# Altium integrated library Elantec Operational Amplifier.IntLib: 201 symbols (part 1 of 4)
Pins are listed as number, name and electrical type; pins without a type are passive.

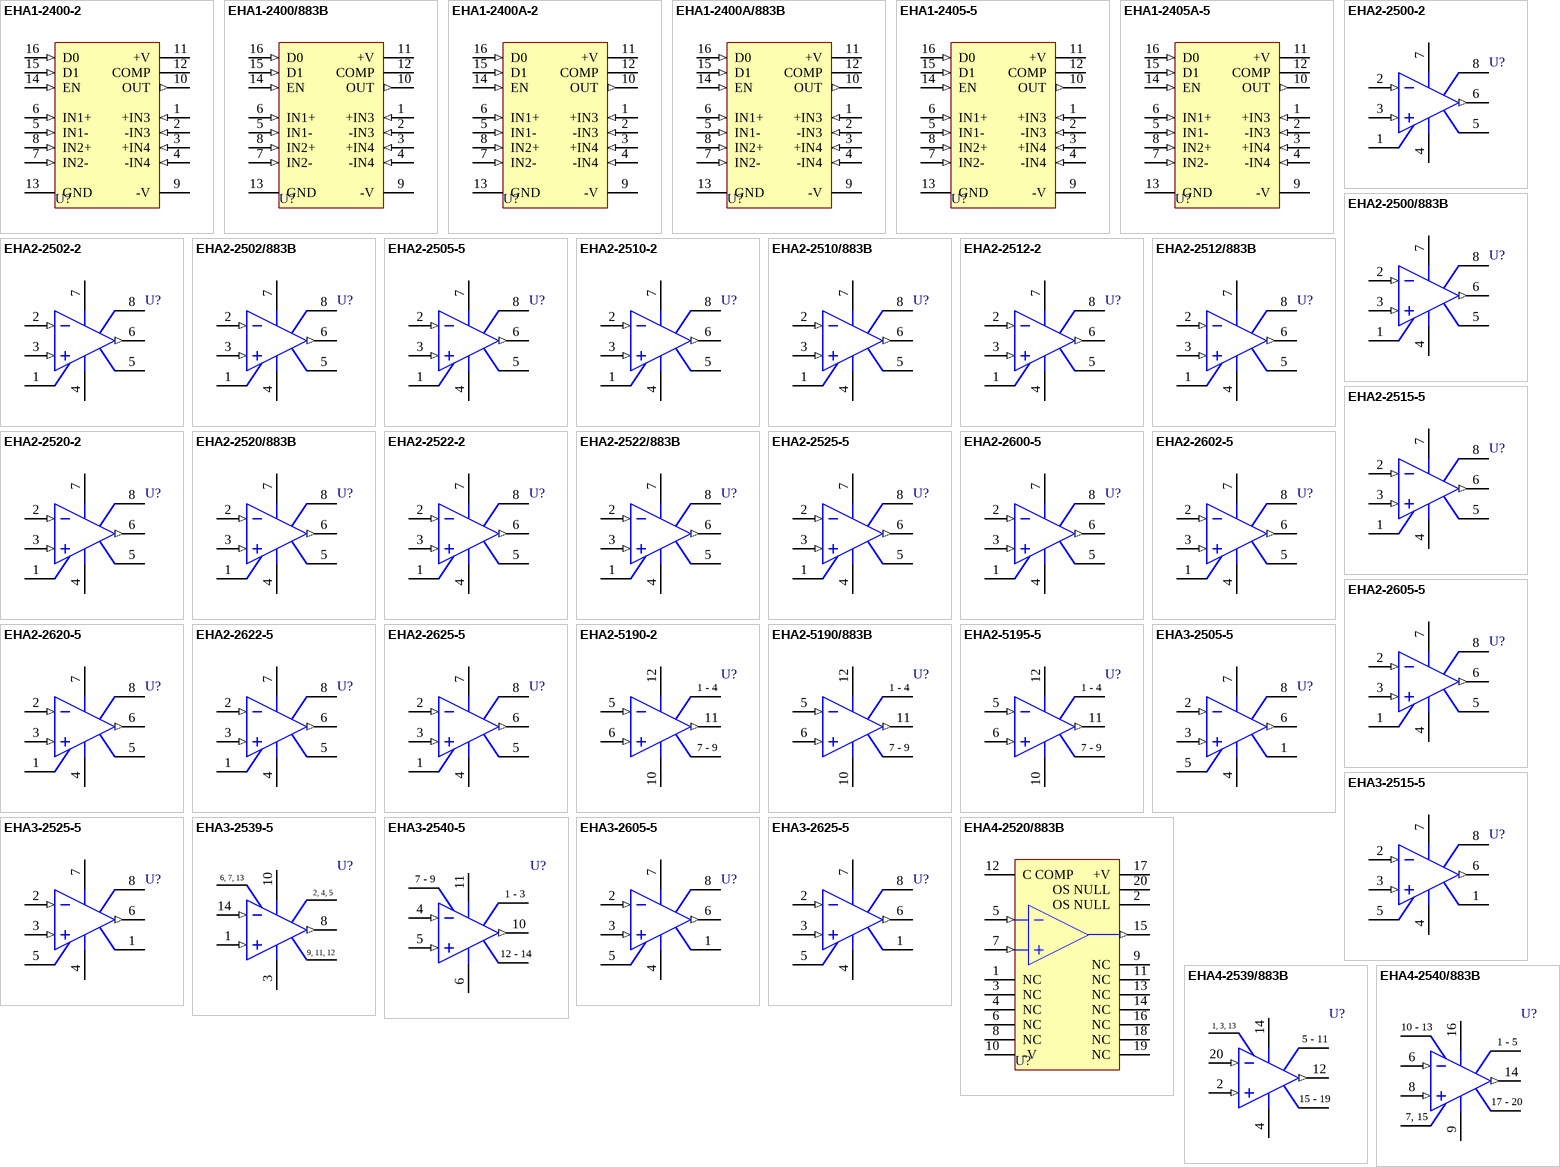
[diagram p0: symbols EHA1-2400-2 to EHA4-2540/883B]

## EHA1-2400-2
designator U?
4 Channel Programmable Amplifier; Published: 8-Jun-2000; LatestRevisionDate: 04-Mar-2005; LatestRevisionNote: Stylized 3D Model Added.; DatasheetVersion: Jul-1991; PackageReference: MDP0021; Publisher: Altium Limited; PackageDescription: DIP; 16 Leads; Row Spacing 7.62 mm; Pitch 2.54 mm; ComponentLink1Description: Manufacturer Link; ComponentLink1URL: http://www.intersil.com/cda/home/
footprint MDP0021 (DIP; 16 Leads; Row Spacing 7.62 mm; Pitch 2.54 mm)
3D model MDP0021 (DIP; 16 Leads; Row Spacing 7.62 mm; Pitch 2.54 mm)
pins: 1 +IN3 (in), 2 -IN3 (in), 3 +IN4 (in), 4 -IN4 (in), 5 IN1- (in), 6 IN1+ (in), 7 IN2- (in), 8 IN2+ (in), 9 -V (power), 10 OUT (out), 11 +V (power), 12 COMP, 13 GND (power), 14 EN (in), 15 D1 (in), 16 D0 (in)

## EHA1-2400/883B
designator U?
4 Channel Programmable Amplifier; Published: 8-Jun-2000; LatestRevisionDate: 04-Mar-2005; LatestRevisionNote: Stylized 3D Model Added.; DatasheetVersion: Jul-1991; PackageReference: MDP0021; Publisher: Altium Limited; PackageDescription: DIP; 16 Leads; Row Spacing 7.62 mm; Pitch 2.54 mm; ComponentLink1Description: Manufacturer Link; ComponentLink1URL: http://www.intersil.com/cda/home/
footprint MDP0021 (DIP; 16 Leads; Row Spacing 7.62 mm; Pitch 2.54 mm)
3D model MDP0021 (DIP; 16 Leads; Row Spacing 7.62 mm; Pitch 2.54 mm)
pins: 1 +IN3 (in), 2 -IN3 (in), 3 +IN4 (in), 4 -IN4 (in), 5 IN1- (in), 6 IN1+ (in), 7 IN2- (in), 8 IN2+ (in), 9 -V (power), 10 OUT (out), 11 +V (power), 12 COMP, 13 GND (power), 14 EN (in), 15 D1 (in), 16 D0 (in)

## EHA1-2400A-2
designator U?
4 Channel Programmable Amplifier; Published: 8-Jun-2000; LatestRevisionDate: 04-Mar-2005; LatestRevisionNote: Stylized 3D Model Added.; DatasheetVersion: Jul-1991; PackageReference: MDP0021; Publisher: Altium Limited; PackageDescription: DIP; 16 Leads; Row Spacing 7.62 mm; Pitch 2.54 mm; ComponentLink1Description: Manufacturer Link; ComponentLink1URL: http://www.intersil.com/cda/home/
footprint MDP0021 (DIP; 16 Leads; Row Spacing 7.62 mm; Pitch 2.54 mm)
3D model MDP0021 (DIP; 16 Leads; Row Spacing 7.62 mm; Pitch 2.54 mm)
pins: 1 +IN3 (in), 2 -IN3 (in), 3 +IN4 (in), 4 -IN4 (in), 5 IN1- (in), 6 IN1+ (in), 7 IN2- (in), 8 IN2+ (in), 9 -V (power), 10 OUT (out), 11 +V (power), 12 COMP, 13 GND (power), 14 EN (in), 15 D1 (in), 16 D0 (in)

## EHA1-2400A/883B
designator U?
4 Channel Programmable Amplifier; Published: 8-Jun-2000; LatestRevisionDate: 04-Mar-2005; LatestRevisionNote: Stylized 3D Model Added.; DatasheetVersion: Jul-1991; PackageReference: MDP0021; Publisher: Altium Limited; PackageDescription: DIP; 16 Leads; Row Spacing 7.62 mm; Pitch 2.54 mm; ComponentLink1Description: Manufacturer Link; ComponentLink1URL: http://www.intersil.com/cda/home/
footprint MDP0021 (DIP; 16 Leads; Row Spacing 7.62 mm; Pitch 2.54 mm)
3D model MDP0021 (DIP; 16 Leads; Row Spacing 7.62 mm; Pitch 2.54 mm)
pins: 1 +IN3 (in), 2 -IN3 (in), 3 +IN4 (in), 4 -IN4 (in), 5 IN1- (in), 6 IN1+ (in), 7 IN2- (in), 8 IN2+ (in), 9 -V (power), 10 OUT (out), 11 +V (power), 12 COMP, 13 GND (power), 14 EN (in), 15 D1 (in), 16 D0 (in)

## EHA1-2405-5
designator U?
4 Channel Programmable Amplifier; Published: 8-Jun-2000; LatestRevisionDate: 04-Mar-2005; LatestRevisionNote: Stylized 3D Model Added.; DatasheetVersion: Jul-1991; PackageReference: MDP0021; Publisher: Altium Limited; PackageDescription: DIP; 16 Leads; Row Spacing 7.62 mm; Pitch 2.54 mm; ComponentLink1Description: Manufacturer Link; ComponentLink1URL: http://www.intersil.com/cda/home/
footprint MDP0021 (DIP; 16 Leads; Row Spacing 7.62 mm; Pitch 2.54 mm)
3D model MDP0021 (DIP; 16 Leads; Row Spacing 7.62 mm; Pitch 2.54 mm)
pins: 1 +IN3 (in), 2 -IN3 (in), 3 +IN4 (in), 4 -IN4 (in), 5 IN1- (in), 6 IN1+ (in), 7 IN2- (in), 8 IN2+ (in), 9 -V (power), 10 OUT (out), 11 +V (power), 12 COMP, 13 GND (power), 14 EN (in), 15 D1 (in), 16 D0 (in)

## EHA1-2405A-5
designator U?
4 Channel Programmable Amplifier; Published: 8-Jun-2000; LatestRevisionDate: 04-Mar-2005; LatestRevisionNote: Stylized 3D Model Added.; DatasheetVersion: Jul-1991; PackageReference: MDP0021; Publisher: Altium Limited; PackageDescription: DIP; 16 Leads; Row Spacing 7.62 mm; Pitch 2.54 mm; ComponentLink1Description: Manufacturer Link; ComponentLink1URL: http://www.intersil.com/cda/home/
footprint MDP0021 (DIP; 16 Leads; Row Spacing 7.62 mm; Pitch 2.54 mm)
3D model MDP0021 (DIP; 16 Leads; Row Spacing 7.62 mm; Pitch 2.54 mm)
pins: 1 +IN3 (in), 2 -IN3 (in), 3 +IN4 (in), 4 -IN4 (in), 5 IN1- (in), 6 IN1+ (in), 7 IN2- (in), 8 IN2+ (in), 9 -V (power), 10 OUT (out), 11 +V (power), 12 COMP, 13 GND (power), 14 EN (in), 15 D1 (in), 16 D0 (in)

## EHA2-2500-2
designator U?
High Slew Rate Operational Amplifier; Published: 8-Jun-2000; LatestRevisionDate: 17-Jul-2002; LatestRevisionNote: Re-released for DXP Platform.; DatasheetVersion: Sep-1992; PackageVersion: 1993; PackageReference: MDP0004; Publisher: Altium Limited; PackageDescription: Can; 8 Leads; Pin Circle Dia. 5.08 mm; Lead Dia. 0.53 mm (max); ComponentLink1Description: Manufacturer Link; ComponentLink1URL: http://www.intersil.com/cda/home/
footprint MDP0004 (Can; 8 Leads; Pin Circle Dia. 5.08 mm; Lead Dia. 0.53 mm (max))
pins: 1 BAL, 2 IN- (in), 3 IN+ (in), 4 V- (power), 5 BAL, 6 OUT (out), 7 V+ (power), 8 CMPEN

## EHA2-2500/883B
designator U?
High Slew Rate Operational Amplifier; Published: 8-Jun-2000; LatestRevisionDate: 17-Jul-2002; LatestRevisionNote: Re-released for DXP Platform.; DatasheetVersion: Sep-1992; PackageVersion: 1993; PackageReference: MDP0004; Publisher: Altium Limited; PackageDescription: Can; 8 Leads; Pin Circle Dia. 5.08 mm; Lead Dia. 0.53 mm (max); ComponentLink1Description: Manufacturer Link; ComponentLink1URL: http://www.intersil.com/cda/home/
footprint MDP0004 (Can; 8 Leads; Pin Circle Dia. 5.08 mm; Lead Dia. 0.53 mm (max))
pins: 1 OS TRIM, 2 IN- (in), 3 IN+ (in), 4 V- (power), 5 OS TRIM, 6 OUT (out), 7 V+ (power), 8 F CMPEN

## EHA2-2502-2
designator U?
High Slew Rate Operational Amplifier; Published: 8-Jun-2000; LatestRevisionDate: 17-Jul-2002; LatestRevisionNote: Re-released for DXP Platform.; DatasheetVersion: Sep-1992; PackageVersion: 1993; PackageReference: MDP0004; Publisher: Altium Limited; PackageDescription: Can; 8 Leads; Pin Circle Dia. 5.08 mm; Lead Dia. 0.53 mm (max); ComponentLink1Description: Manufacturer Link; ComponentLink1URL: http://www.intersil.com/cda/home/
footprint MDP0004 (Can; 8 Leads; Pin Circle Dia. 5.08 mm; Lead Dia. 0.53 mm (max))
pins: 1 BAL, 2 IN- (in), 3 IN+ (in), 4 V- (power), 5 BAL, 6 OUT (out), 7 V+ (power), 8 CMPEN

## EHA2-2502/883B
designator U?
High Slew Rate Operational Amplifier; Published: 8-Jun-2000; LatestRevisionDate: 17-Jul-2002; LatestRevisionNote: Re-released for DXP Platform.; DatasheetVersion: Sep-1992; PackageVersion: 1993; PackageReference: MDP0004; Publisher: Altium Limited; PackageDescription: Can; 8 Leads; Pin Circle Dia. 5.08 mm; Lead Dia. 0.53 mm (max); ComponentLink1Description: Manufacturer Link; ComponentLink1URL: http://www.intersil.com/cda/home/
footprint MDP0004 (Can; 8 Leads; Pin Circle Dia. 5.08 mm; Lead Dia. 0.53 mm (max))
pins: 1 BAL, 2 IN- (in), 3 IN+ (in), 4 V- (power), 5 BAL, 6 OUT (out), 7 V+ (power), 8 CMPEN

## EHA2-2505-5
designator U?
High Slew Rate Operational Amplifier; Published: 8-Jun-2000; LatestRevisionDate: 17-Jul-2002; LatestRevisionNote: Re-released for DXP Platform.; DatasheetVersion: Sep-1992; PackageVersion: 1993; PackageReference: MDP0004; Publisher: Altium Limited; PackageDescription: Can; 8 Leads; Pin Circle Dia. 5.08 mm; Lead Dia. 0.53 mm (max); ComponentLink1Description: Manufacturer Link; ComponentLink1URL: http://www.intersil.com/cda/home/
footprint MDP0004 (Can; 8 Leads; Pin Circle Dia. 5.08 mm; Lead Dia. 0.53 mm (max))
pins: 1 BAL, 2 IN- (in), 3 IN+ (in), 4 V- (power), 5 BAL, 6 OUT (out), 7 V+ (power), 8 CMPEN

## EHA2-2510-2
designator U?
High Slew Rate Operational Amplifier; Published: 8-Jun-2000; LatestRevisionDate: 17-Jul-2002; LatestRevisionNote: Re-released for DXP Platform.; DatasheetVersion: Sep-1992; PackageVersion: 1993; PackageReference: MDP0004; Publisher: Altium Limited; PackageDescription: Can; 8 Leads; Pin Circle Dia. 5.08 mm; Lead Dia. 0.53 mm (max); ComponentLink1Description: Manufacturer Link; ComponentLink1URL: http://www.intersil.com/cda/home/
footprint MDP0004 (Can; 8 Leads; Pin Circle Dia. 5.08 mm; Lead Dia. 0.53 mm (max))
pins: 1 BAL, 2 IN- (in), 3 IN+ (in), 4 V- (power), 5 BAL, 6 OUT (out), 7 V+ (power), 8 CMPEN

## EHA2-2510/883B
designator U?
High Slew Rate Operational Amplifier; Published: 8-Jun-2000; LatestRevisionDate: 17-Jul-2002; LatestRevisionNote: Re-released for DXP Platform.; DatasheetVersion: Sep-1992; PackageVersion: 1993; PackageReference: MDP0004; Publisher: Altium Limited; PackageDescription: Can; 8 Leads; Pin Circle Dia. 5.08 mm; Lead Dia. 0.53 mm (max); ComponentLink1Description: Manufacturer Link; ComponentLink1URL: http://www.intersil.com/cda/home/
footprint MDP0004 (Can; 8 Leads; Pin Circle Dia. 5.08 mm; Lead Dia. 0.53 mm (max))
pins: 1 BAL, 2 IN- (in), 3 IN+ (in), 4 V- (power), 5 BAL, 6 OUT (out), 7 V+ (power), 8 CMPEN

## EHA2-2512-2
designator U?
High Slew Rate Operational Amplifier; Published: 8-Jun-2000; LatestRevisionDate: 17-Jul-2002; LatestRevisionNote: Re-released for DXP Platform.; DatasheetVersion: Sep-1992; PackageVersion: 1993; PackageReference: MDP0004; Publisher: Altium Limited; PackageDescription: Can; 8 Leads; Pin Circle Dia. 5.08 mm; Lead Dia. 0.53 mm (max); ComponentLink1Description: Manufacturer Link; ComponentLink1URL: http://www.intersil.com/cda/home/
footprint MDP0004 (Can; 8 Leads; Pin Circle Dia. 5.08 mm; Lead Dia. 0.53 mm (max))
pins: 1 BAL, 2 IN- (in), 3 IN+ (in), 4 V- (power), 5 BAL, 6 OUT (out), 7 V+ (power), 8 CMPEN

## EHA2-2512/883B
designator U?
High Slew Rate Operational Amplifier; Published: 8-Jun-2000; LatestRevisionDate: 17-Jul-2002; LatestRevisionNote: Re-released for DXP Platform.; DatasheetVersion: Sep-1992; PackageVersion: 1993; PackageReference: MDP0004; Publisher: Altium Limited; PackageDescription: Can; 8 Leads; Pin Circle Dia. 5.08 mm; Lead Dia. 0.53 mm (max); ComponentLink1Description: Manufacturer Link; ComponentLink1URL: http://www.intersil.com/cda/home/
footprint MDP0004 (Can; 8 Leads; Pin Circle Dia. 5.08 mm; Lead Dia. 0.53 mm (max))
pins: 1 BAL, 2 IN- (in), 3 IN+ (in), 4 V- (power), 5 BAL, 6 OUT (out), 7 V+ (power), 8 CMPEN

## EHA2-2515-5
designator U?
High Slew Rate Operational Amplifier; Published: 8-Jun-2000; LatestRevisionDate: 17-Jul-2002; LatestRevisionNote: Re-released for DXP Platform.; DatasheetVersion: Sep-1992; PackageVersion: 1993; PackageReference: MDP0004; Publisher: Altium Limited; PackageDescription: Can; 8 Leads; Pin Circle Dia. 5.08 mm; Lead Dia. 0.53 mm (max); ComponentLink1Description: Manufacturer Link; ComponentLink1URL: http://www.intersil.com/cda/home/
footprint MDP0004 (Can; 8 Leads; Pin Circle Dia. 5.08 mm; Lead Dia. 0.53 mm (max))
pins: 1 BAL, 2 IN- (in), 3 IN+ (in), 4 V- (power), 5 BAL, 6 OUT (out), 7 V+ (power), 8 CMPEN

## EHA2-2520-2
designator U?
High Slew Rate Operational Amplifier; Published: 8-Jun-2000; LatestRevisionDate: 17-Jul-2002; LatestRevisionNote: Re-released for DXP Platform.; DatasheetVersion: Sep-1992; PackageVersion: 1993; PackageReference: MDP0004; Publisher: Altium Limited; PackageDescription: Can; 8 Leads; Pin Circle Dia. 5.08 mm; Lead Dia. 0.53 mm (max); ComponentLink1Description: Manufacturer Link; ComponentLink1URL: http://www.intersil.com/cda/home/
footprint MDP0004 (Can; 8 Leads; Pin Circle Dia. 5.08 mm; Lead Dia. 0.53 mm (max))
pins: 1 BAL, 2 IN- (in), 3 IN+ (in), 4 V- (power), 5 BAL, 6 OUT (out), 7 V+ (power), 8 CMPEN

## EHA2-2520/883B
designator U?
High Slew Rate Operational Amplifier; Published: 8-Jun-2000; LatestRevisionDate: 17-Jul-2002; LatestRevisionNote: Re-released for DXP Platform.; DatasheetVersion: Sep-1992; PackageVersion: 1993; PackageReference: MDP0004; Publisher: Altium Limited; PackageDescription: Can; 8 Leads; Pin Circle Dia. 5.08 mm; Lead Dia. 0.53 mm (max); ComponentLink1Description: Manufacturer Link; ComponentLink1URL: http://www.intersil.com/cda/home/
footprint MDP0004 (Can; 8 Leads; Pin Circle Dia. 5.08 mm; Lead Dia. 0.53 mm (max))
pins: 1 BAL, 2 IN- (in), 3 IN+ (in), 4 V- (power), 5 BAL, 6 OUT (out), 7 V+ (power), 8 CMPEN

## EHA2-2522-2
designator U?
High Slew Rate Operational Amplifier; Published: 8-Jun-2000; LatestRevisionDate: 17-Jul-2002; LatestRevisionNote: Re-released for DXP Platform.; DatasheetVersion: Sep-1992; PackageVersion: 1993; PackageReference: MDP0004; Publisher: Altium Limited; PackageDescription: Can; 8 Leads; Pin Circle Dia. 5.08 mm; Lead Dia. 0.53 mm (max); ComponentLink1Description: Manufacturer Link; ComponentLink1URL: http://www.intersil.com/cda/home/
footprint MDP0004 (Can; 8 Leads; Pin Circle Dia. 5.08 mm; Lead Dia. 0.53 mm (max))
pins: 1 BAL, 2 IN- (in), 3 IN+ (in), 4 V- (power), 5 BAL, 6 OUT (out), 7 V+ (power), 8 CMPEN

## EHA2-2522/883B
designator U?
High Slew Rate Operational Amplifier; Published: 8-Jun-2000; LatestRevisionDate: 17-Jul-2002; LatestRevisionNote: Re-released for DXP Platform.; DatasheetVersion: Sep-1992; PackageVersion: 1993; PackageReference: MDP0004; Publisher: Altium Limited; PackageDescription: Can; 8 Leads; Pin Circle Dia. 5.08 mm; Lead Dia. 0.53 mm (max); ComponentLink1Description: Manufacturer Link; ComponentLink1URL: http://www.intersil.com/cda/home/
footprint MDP0004 (Can; 8 Leads; Pin Circle Dia. 5.08 mm; Lead Dia. 0.53 mm (max))
pins: 1 BAL, 2 IN- (in), 3 IN+ (in), 4 V- (power), 5 BAL, 6 OUT (out), 7 V+ (power), 8 CMPEN

## EHA2-2525-5
designator U?
High Slew Rate Operational Amplifier; Published: 8-Jun-2000; LatestRevisionDate: 17-Jul-2002; LatestRevisionNote: Re-released for DXP Platform.; DatasheetVersion: Sep-1992; PackageVersion: 1993; PackageReference: MDP0004; Publisher: Altium Limited; PackageDescription: Can; 8 Leads; Pin Circle Dia. 5.08 mm; Lead Dia. 0.53 mm (max); ComponentLink1Description: Manufacturer Link; ComponentLink1URL: http://www.intersil.com/cda/home/
footprint MDP0004 (Can; 8 Leads; Pin Circle Dia. 5.08 mm; Lead Dia. 0.53 mm (max))
pins: 1 BAL, 2 IN- (in), 3 IN+ (in), 4 V- (power), 5 BAL, 6 OUT (out), 7 V+ (power), 8 CMPEN

## EHA2-2600-5
designator U?
Wideband, High Impedance Operational Amplifier; Published: 8-Jun-2000; LatestRevisionDate: 17-Jul-2002; LatestRevisionNote: Re-released for DXP Platform.; DatasheetVersion: Jun-1992; PackageVersion: 1993; PackageReference: MDP0004; Publisher: Altium Limited; PackageDescription: Can; 8 Leads; Pin Circle Dia. 5.08 mm; Lead Dia. 0.53 mm (max); ComponentLink1Description: Manufacturer Link; ComponentLink1URL: http://www.intersil.com/cda/home/
footprint MDP0004 (Can; 8 Leads; Pin Circle Dia. 5.08 mm; Lead Dia. 0.53 mm (max))
pins: 1 BAL, 2 IN- (in), 3 IN+ (in), 4 V- (power), 5 BAL, 6 OUT (out), 7 V+ (power), 8 CMPEN

## EHA2-2602-5
designator U?
Wideband, High Impedance Operational Amplifier; Published: 8-Jun-2000; LatestRevisionDate: 17-Jul-2002; LatestRevisionNote: Re-released for DXP Platform.; DatasheetVersion: Jun-1992; PackageVersion: 1993; PackageReference: MDP0004; Publisher: Altium Limited; PackageDescription: Can; 8 Leads; Pin Circle Dia. 5.08 mm; Lead Dia. 0.53 mm (max); ComponentLink1Description: Manufacturer Link; ComponentLink1URL: http://www.intersil.com/cda/home/
footprint MDP0004 (Can; 8 Leads; Pin Circle Dia. 5.08 mm; Lead Dia. 0.53 mm (max))
pins: 1 BAL, 2 IN- (in), 3 IN+ (in), 4 V- (power), 5 BAL, 6 OUT (out), 7 V+ (power), 8 CMPEN

## EHA2-2605-5
designator U?
Wideband, High Impedance Operational Amplifier; Published: 8-Jun-2000; LatestRevisionDate: 17-Jul-2002; LatestRevisionNote: Re-released for DXP Platform.; DatasheetVersion: Jun-1992; PackageVersion: 1993; PackageReference: MDP0004; Publisher: Altium Limited; PackageDescription: Can; 8 Leads; Pin Circle Dia. 5.08 mm; Lead Dia. 0.53 mm (max); ComponentLink1Description: Manufacturer Link; ComponentLink1URL: http://www.intersil.com/cda/home/
footprint MDP0004 (Can; 8 Leads; Pin Circle Dia. 5.08 mm; Lead Dia. 0.53 mm (max))
pins: 1 BAL, 2 IN- (in), 3 IN+ (in), 4 V- (power), 5 BAL, 6 OUT (out), 7 V+ (power), 8 CMPEN

## EHA2-2620-5
designator U?
Wideband, High Impedance Operational Amplifier; Published: 8-Jun-2000; LatestRevisionDate: 17-Jul-2002; LatestRevisionNote: Re-released for DXP Platform.; DatasheetVersion: Jun-1992; PackageVersion: 1993; PackageReference: MDP0004; Publisher: Altium Limited; PackageDescription: Can; 8 Leads; Pin Circle Dia. 5.08 mm; Lead Dia. 0.53 mm (max); ComponentLink1Description: Manufacturer Link; ComponentLink1URL: http://www.intersil.com/cda/home/
footprint MDP0004 (Can; 8 Leads; Pin Circle Dia. 5.08 mm; Lead Dia. 0.53 mm (max))
pins: 1 BAL, 2 IN- (in), 3 IN+ (in), 4 V- (power), 5 BAL, 6 OUT (out), 7 V+ (power), 8 CMPEN

## EHA2-2622-5
designator U?
Wideband, High Impedance Operational Amplifier; Published: 8-Jun-2000; LatestRevisionDate: 17-Jul-2002; LatestRevisionNote: Re-released for DXP Platform.; DatasheetVersion: Jun-1992; PackageVersion: 1993; PackageReference: MDP0004; Publisher: Altium Limited; PackageDescription: Can; 8 Leads; Pin Circle Dia. 5.08 mm; Lead Dia. 0.53 mm (max); ComponentLink1Description: Manufacturer Link; ComponentLink1URL: http://www.intersil.com/cda/home/
footprint MDP0004 (Can; 8 Leads; Pin Circle Dia. 5.08 mm; Lead Dia. 0.53 mm (max))
pins: 1 BAL, 2 IN- (in), 3 IN+ (in), 4 V- (power), 5 BAL, 6 OUT (out), 7 V+ (power), 8 CMPEN

## EHA2-2625-5
designator U?
Wideband, High Impedance Operational Amplifier; Published: 8-Jun-2000; LatestRevisionDate: 17-Jul-2002; LatestRevisionNote: Re-released for DXP Platform.; DatasheetVersion: Jun-1992; PackageVersion: 1993; PackageReference: MDP0004; Publisher: Altium Limited; PackageDescription: Can; 8 Leads; Pin Circle Dia. 5.08 mm; Lead Dia. 0.53 mm (max); ComponentLink1Description: Manufacturer Link; ComponentLink1URL: http://www.intersil.com/cda/home/
footprint MDP0004 (Can; 8 Leads; Pin Circle Dia. 5.08 mm; Lead Dia. 0.53 mm (max))
pins: 1 BAL, 2 IN- (in), 3 IN+ (in), 4 V- (power), 5 BAL, 6 OUT (out), 7 V+ (power), 8 CMPEN

## EHA2-5190-2
designator U?
Wideband, Fast Settling Operational Amplifier; Note: Case tied to pin 10.; Published: 8-Jun-2000; LatestRevisionDate: 17-Jul-2002; LatestRevisionNote: Re-released for DXP Platform.; DatasheetVersion: Jul-1991; PackageVersion: 1993; PackageReference: MDP0002; Publisher: Altium Limited; PackageDescription: Can; 12 Leads; 10.16 mm Square Array; Lead Dia. 0.48 mm (max); ComponentLink1Description: Manufacturer Link; ComponentLink1URL: http://www.intersil.com/cda/home/
footprint MDP0002 (Can; 12 Leads; 10.16 mm Square Array; Lead Dia. 0.48 mm (max))
pins: 1 NC, 2 NC, 3 NC, 4 NC, 5 IN- (in), 6 IN+ (in), 7 NC, 8 NC, 9 NC, 10 V- (power), 11 OUT (out), 12 V+ (power)
text: 1 - 4; 7 - 9

## EHA2-5190/883B
designator U?
Wideband, Fast Settling Operational Amplifier; Note: Pins 1-3,7-9,12-14 are No Connection; Published: 8-Jun-2000; LatestRevisionDate: 17-Jul-2002; LatestRevisionNote: Re-released for DXP Platform.; DatasheetVersion: Jul-1991; PackageVersion: 1993; PackageReference: MDP0002; Publisher: Altium Limited; PackageDescription: Can; 12 Leads; 10.16 mm Square Array; Lead Dia. 0.48 mm (max); ComponentLink1Description: Manufacturer Link; ComponentLink1URL: http://www.intersil.com/cda/home/
footprint MDP0002 (Can; 12 Leads; 10.16 mm Square Array; Lead Dia. 0.48 mm (max))
pins: 1 NC, 2 NC, 3 NC, 4 NC, 5 IN- (in), 6 IN+ (in), 7 NC, 8 NC, 9 NC, 10 V- (power), 11 OUT (out), 12 V+ (power)
text: 1 - 4; 7 - 9

## EHA2-5195-5
designator U?
Wideband, Fast Settling Operational Amplifier; Note: Case tied to pin 10.; Published: 8-Jun-2000; LatestRevisionDate: 17-Jul-2002; LatestRevisionNote: Re-released for DXP Platform.; DatasheetVersion: Jul-1991; PackageVersion: 1993; PackageReference: MDP0002; Publisher: Altium Limited; PackageDescription: Can; 12 Leads; 10.16 mm Square Array; Lead Dia. 0.48 mm (max); ComponentLink1Description: Manufacturer Link; ComponentLink1URL: http://www.intersil.com/cda/home/
footprint MDP0002 (Can; 12 Leads; 10.16 mm Square Array; Lead Dia. 0.48 mm (max))
pins: 1 NC, 2 NC, 3 NC, 4 NC, 5 IN- (in), 6 IN+ (in), 7 NC, 8 NC, 9 NC, 10 V- (power), 11 OUT (out), 12 V+ (power)
text: 1 - 4; 7 - 9

## EHA3-2505-5
designator U?
High Slew Rate Operational Amplifier; Published: 8-Jun-2000; LatestRevisionDate: 17-Jul-2002; LatestRevisionNote: Re-released for DXP Platform.; DatasheetVersion: Sep-1992; PackageReference: MDP0031-8; Publisher: Altium Limited; PackageDescription: DIP; 8 Leads; Row Spacing 7.62 mm; Pitch 2.54 mm; ComponentLink1Description: Manufacturer Link; ComponentLink1URL: http://www.intersil.com/cda/home/
footprint MDP0031-8 (DIP; 8 Leads; Row Spacing 7.62 mm; Pitch 2.54 mm)
pins: 1 BAL, 2 IN- (in), 3 IN+ (in), 4 V- (power), 5 BAL, 6 OUT (out), 7 V+ (power), 8 CMPEN

## EHA3-2515-5
designator U?
High Slew Rate Operational Amplifier; Published: 8-Jun-2000; LatestRevisionDate: 17-Jul-2002; LatestRevisionNote: Re-released for DXP Platform.; DatasheetVersion: Sep-1992; PackageReference: MDP0031-8; Publisher: Altium Limited; PackageDescription: DIP; 8 Leads; Row Spacing 7.62 mm; Pitch 2.54 mm; ComponentLink1Description: Manufacturer Link; ComponentLink1URL: http://www.intersil.com/cda/home/
footprint MDP0031-8 (DIP; 8 Leads; Row Spacing 7.62 mm; Pitch 2.54 mm)
pins: 1 BAL, 2 IN- (in), 3 IN+ (in), 4 V- (power), 5 BAL, 6 OUT (out), 7 V+ (power), 8 CMPEN

## EHA3-2525-5
designator U?
High Slew Rate Operational Amplifier; Published: 8-Jun-2000; LatestRevisionDate: 17-Jul-2002; LatestRevisionNote: Re-released for DXP Platform.; DatasheetVersion: Sep-1992; PackageReference: MDP0031-8; Publisher: Altium Limited; PackageDescription: DIP; 8 Leads; Row Spacing 7.62 mm; Pitch 2.54 mm; ComponentLink1Description: Manufacturer Link; ComponentLink1URL: http://www.intersil.com/cda/home/
footprint MDP0031-8 (DIP; 8 Leads; Row Spacing 7.62 mm; Pitch 2.54 mm)
pins: 1 BAL, 2 IN- (in), 3 IN+ (in), 4 V- (power), 5 BAL, 6 OUT (out), 7 V+ (power), 8 CMPEN

## EHA3-2539-5
designator U?
Very High Slew Rate Wideband Operational Amplifier; Published: 8-Jun-2000; LatestRevisionDate: 04-Mar-2005; LatestRevisionNote: Stylized 3D Model Added.; DatasheetVersion: Jul-1991; PackageReference: MDP0031-14; Publisher: Altium Limited; PackageDescription: DIP; 14 Leads; Row Spacing 7.62 mm; Pitch 2.54 mm; ComponentLink1Description: Manufacturer Link; ComponentLink1URL: http://www.intersil.com/cda/home/
footprint MDP0031-14 (DIP; 14 Leads; Row Spacing 7.62 mm; Pitch 2.54 mm)
3D model MDP0031-14 (DIP; 14 Leads; Row Spacing 7.62 mm; Pitch 2.54 mm)
pins: 1 IN+ (in), 2 NC, 3 V- (power), 4 NC, 5 NC, 6 NC, 7 NC, 8 OUT (out), 9 NC, 10 V+ (power), 11 NC, 12 NC, 13 NC, 14 IN- (in)
text: 6, 7, 13; 2, 4, 5; 9, 11, 12

## EHA3-2540-5
designator U?
Very High Slew Rate Wideband Operational Amplifier; Note: Pins 1-3,7-9,12-14 are No Connection; Published: 8-Jun-2000; LatestRevisionDate: 04-Mar-2005; LatestRevisionNote: Stylized 3D Model Added.; DatasheetVersion: Jul-1991; PackageReference: MDP0031-14; Publisher: Altium Limited; PackageDescription: DIP; 14 Leads; Row Spacing 7.62 mm; Pitch 2.54 mm; ComponentLink1Description: Manufacturer Link; ComponentLink1URL: http://www.intersil.com/cda/home/
footprint MDP0031-14 (DIP; 14 Leads; Row Spacing 7.62 mm; Pitch 2.54 mm)
3D model MDP0031-14 (DIP; 14 Leads; Row Spacing 7.62 mm; Pitch 2.54 mm)
pins: 1 NC, 2 NC, 3 NC, 4 IN- (in), 5 IN+ (in), 6 V- (power), 7 NC, 8 NC, 9 NC, 10 OUT (out), 11 V+ (power), 12 NC, 13 NC, 14 NC
text: 7 - 9; 1 - 3; 12 - 14

## EHA3-2605-5
designator U?
Wideband, High Impedance Operational Amplifier; Published: 8-Jun-2000; LatestRevisionDate: 17-Jul-2002; LatestRevisionNote: Re-released for DXP Platform.; DatasheetVersion: Jun-1992; PackageReference: MDP0031-8; Publisher: Altium Limited; PackageDescription: DIP; 8 Leads; Row Spacing 7.62 mm; Pitch 2.54 mm; ComponentLink1Description: Manufacturer Link; ComponentLink1URL: http://www.intersil.com/cda/home/
footprint MDP0031-8 (DIP; 8 Leads; Row Spacing 7.62 mm; Pitch 2.54 mm)
pins: 1 BAL, 2 IN- (in), 3 IN+ (in), 4 V- (power), 5 BAL, 6 OUT (out), 7 V+ (power), 8 CMPEN

## EHA3-2625-5
designator U?
Wideband, High Impedance Operational Amplifier; Published: 8-Jun-2000; LatestRevisionDate: 17-Jul-2002; LatestRevisionNote: Re-released for DXP Platform.; DatasheetVersion: Jun-1992; PackageReference: MDP0031-8; Publisher: Altium Limited; PackageDescription: DIP; 8 Leads; Row Spacing 7.62 mm; Pitch 2.54 mm; ComponentLink1Description: Manufacturer Link; ComponentLink1URL: http://www.intersil.com/cda/home/
footprint MDP0031-8 (DIP; 8 Leads; Row Spacing 7.62 mm; Pitch 2.54 mm)
pins: 1 BAL, 2 IN- (in), 3 IN+ (in), 4 V- (power), 5 BAL, 6 OUT (out), 7 V+ (power), 8 CMPEN

## EHA4-2520/883B
designator U?
High Slew Rate Operational Amplifier; Published: 8-Jun-2000; LatestRevisionDate: 17-Jul-2002; LatestRevisionNote: Re-released for DXP Platform.; DatasheetVersion: Sep-1992; PackageVersion: 1993; PackageReference: MDP0007; Publisher: Altium Limited; PackageDescription: Leadless Chip Carrier; 20 Terminals; Body 8.9 x 8.9 mm; ComponentLink1Description: Manufacturer Link; ComponentLink1URL: http://www.intersil.com/cda/home/
footprint MDP0007 (Leadless Chip Carrier; 20 Terminals; Body 8.9 x 8.9 mm)
pins: 1 NC, 2 OS NULL, 3 NC, 4 NC, 5 IN- (in), 6 NC, 7 IN+ (in), 8 NC, 9 NC, 10 -V (power), 11 NC, 12 C COMP, 13 NC, 14 NC, 15 OUT (out), 16 NC, 17 +V (power), 18 NC, 19 NC, 20 OS NULL

## EHA4-2539/883B
designator U?
Very High Slew Rate Wideband Operational Amplifier; Note: Pins 1,3,5-11,13,15-19 are No Connection; Published: 8-Jun-2000; LatestRevisionDate: 17-Jul-2002; LatestRevisionNote: Re-released for DXP Platform.; DatasheetVersion: Jul-1991; PackageVersion: 1993; PackageReference: MDP0007; Publisher: Altium Limited; PackageDescription: Leadless Chip Carrier; 20 Terminals; Body 8.9 x 8.9 mm; ComponentLink1Description: Manufacturer Link; ComponentLink1URL: http://www.intersil.com/cda/home/
footprint MDP0007 (Leadless Chip Carrier; 20 Terminals; Body 8.9 x 8.9 mm)
pins: 1 NC, 2 IN+ (in), 3 NC, 4 V- (power), 5 NC, 6 NC, 7 NC, 8 NC, 9 NC, 10 NC, 11 NC, 12 OUT (out), 13 NC, 14 V+ (power), 15 NC, 16 NC, 17 NC, 18 NC, 19 NC, 20 IN- (in)
text: 1, 3, 13; 5 - 11; 15 - 19

## EHA4-2540/883B
designator U?
Very High Slew Rate Wideband Operational Amplifier; Published: 8-Jun-2000; LatestRevisionDate: 17-Jul-2002; LatestRevisionNote: Re-released for DXP Platform.; DatasheetVersion: Jul-1991; PackageVersion: 1993; PackageReference: MDP0007; Publisher: Altium Limited; PackageDescription: Leadless Chip Carrier; 20 Terminals; Body 8.9 x 8.9 mm; ComponentLink1Description: Manufacturer Link; ComponentLink1URL: http://www.intersil.com/cda/home/
footprint MDP0007 (Leadless Chip Carrier; 20 Terminals; Body 8.9 x 8.9 mm)
pins: 1 NC, 2 NC, 3 NC, 4 NC, 5 NC, 6 IN- (in), 7 NC, 8 IN+ (in), 9 V- (power), 10 NC, 11 NC, 12 NC, 13 NC, 14 OUT (out), 15 NC, 16 V+ (power), 17 NC, 18 NC, 19 NC, 20 NC
text: 10 - 13; 1 - 5; 17 - 20; 7, 15

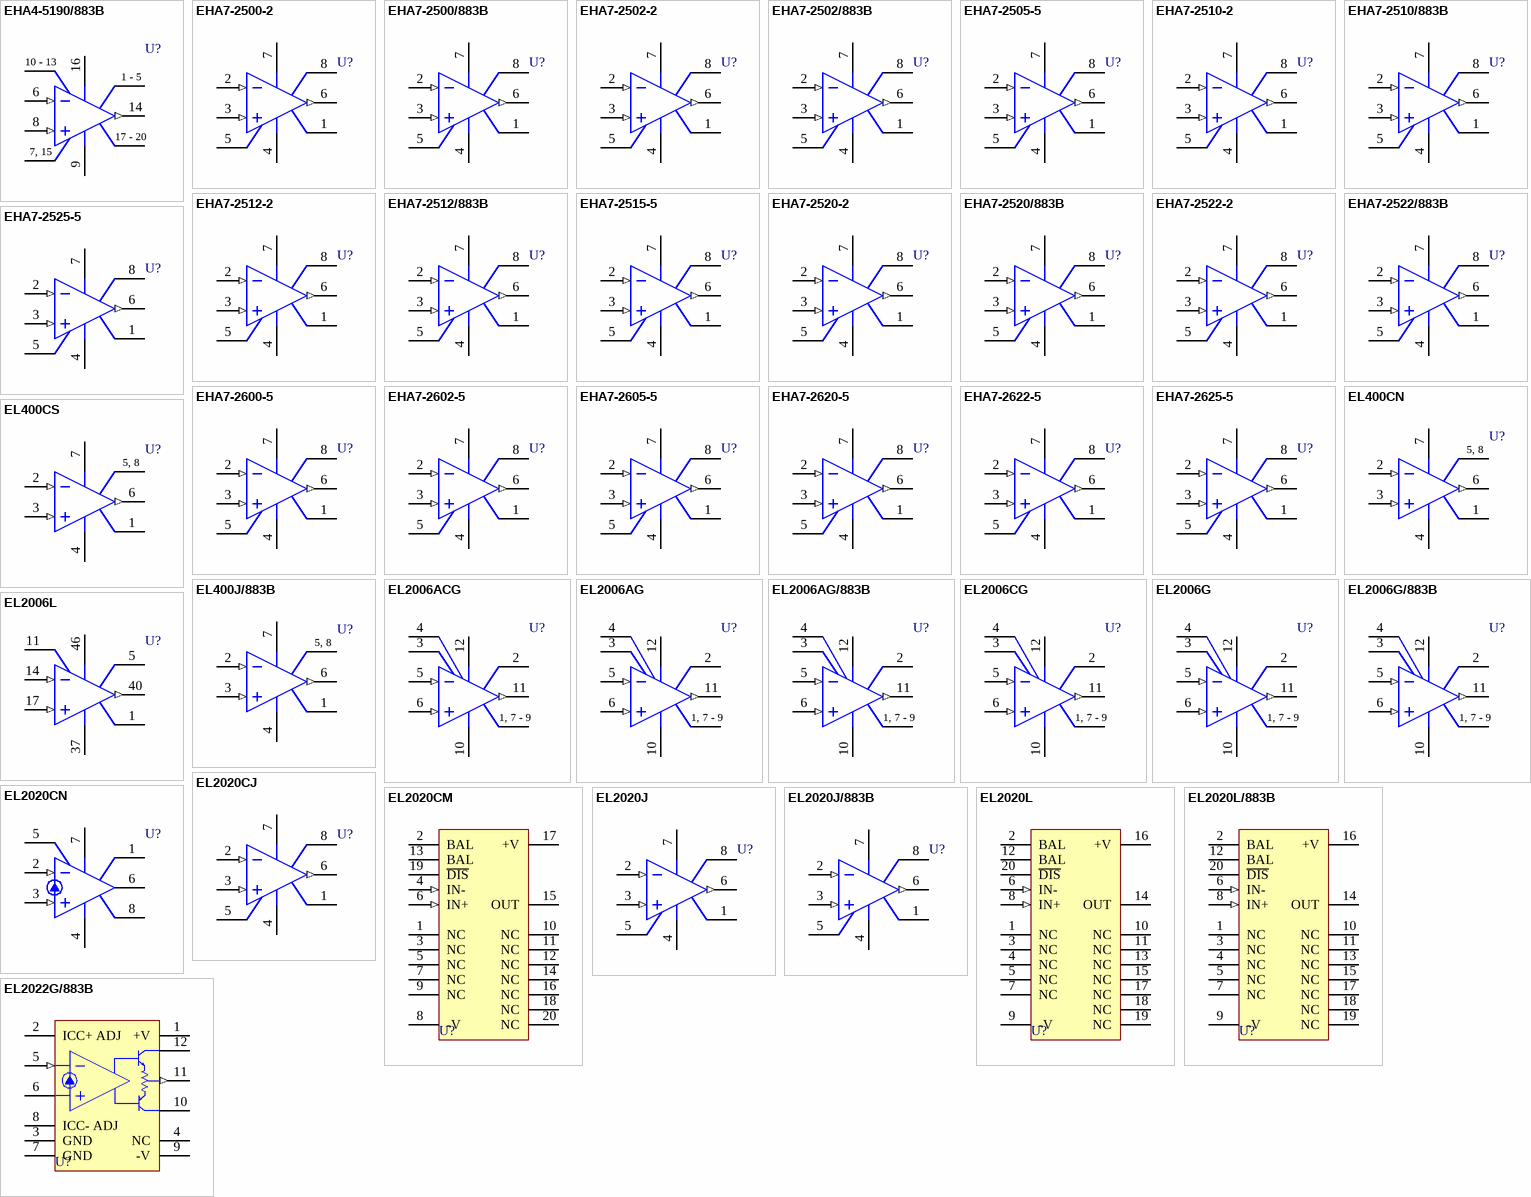
[diagram p1: symbols EHA4-5190/883B to EL2022G/883B]

## EHA4-5190/883B
designator U?
Wideband, Fast Settling Operational Amplifier; Published: 8-Jun-2000; LatestRevisionDate: 17-Jul-2002; LatestRevisionNote: Re-released for DXP Platform.; DatasheetVersion: Jul-1991; PackageVersion: 1993; PackageReference: MDP0007; Publisher: Altium Limited; PackageDescription: Leadless Chip Carrier; 20 Terminals; Body 8.9 x 8.9 mm; ComponentLink1Description: Manufacturer Link; ComponentLink1URL: http://www.intersil.com/cda/home/
footprint MDP0007 (Leadless Chip Carrier; 20 Terminals; Body 8.9 x 8.9 mm)
pins: 1 NC, 2 NC, 3 NC, 4 NC, 5 NC, 6 IN- (in), 7 NC, 8 IN+ (in), 9 V- (power), 10 NC, 11 NC, 12 NC, 13 NC, 14 OUT (out), 15 NC, 16 V+ (power), 17 NC, 18 NC, 19 NC, 20 NC
text: 10 - 13; 1 - 5; 17 - 20; 7, 15

## EHA7-2500-2
designator U?
High Slew Rate Operational Amplifier; Published: 8-Jun-2000; LatestRevisionDate: 04-Mar-2005; LatestRevisionNote: Stylized 3D Model Added.; DatasheetVersion: Sep-1992; PackageReference: MDP0010; Publisher: Altium Limited; PackageDescription: DIP; 8 Leads; Row Spacing 7.62 mm; Pitch 2.54 mm; ComponentLink1Description: Manufacturer Link; ComponentLink1URL: http://www.intersil.com/cda/home/
footprint MDP0010 (DIP; 8 Leads; Row Spacing 7.62 mm; Pitch 2.54 mm)
3D model MDP0010 (DIP; 8 Leads; Row Spacing 7.62 mm; Pitch 2.54 mm)
pins: 1 BAL, 2 IN- (in), 3 IN+ (in), 4 V- (power), 5 BAL, 6 OUT (out), 7 V+ (power), 8 CMPEN

## EHA7-2500/883B
designator U?
High Slew Rate Operational Amplifier; Published: 8-Jun-2000; LatestRevisionDate: 04-Mar-2005; LatestRevisionNote: Stylized 3D Model Added.; DatasheetVersion: Sep-1992; PackageReference: MDP0010; Publisher: Altium Limited; PackageDescription: DIP; 8 Leads; Row Spacing 7.62 mm; Pitch 2.54 mm; ComponentLink1Description: Manufacturer Link; ComponentLink1URL: http://www.intersil.com/cda/home/
footprint MDP0010 (DIP; 8 Leads; Row Spacing 7.62 mm; Pitch 2.54 mm)
3D model MDP0010 (DIP; 8 Leads; Row Spacing 7.62 mm; Pitch 2.54 mm)
pins: 1 BAL, 2 IN- (in), 3 IN+ (in), 4 V- (power), 5 BAL, 6 OUT (out), 7 V+ (power), 8 CMPEN

## EHA7-2502-2
designator U?
High Slew Rate Operational Amplifier; Published: 8-Jun-2000; LatestRevisionDate: 04-Mar-2005; LatestRevisionNote: Stylized 3D Model Added.; DatasheetVersion: Sep-1992; PackageReference: MDP0010; Publisher: Altium Limited; PackageDescription: DIP; 8 Leads; Row Spacing 7.62 mm; Pitch 2.54 mm; ComponentLink1Description: Manufacturer Link; ComponentLink1URL: http://www.intersil.com/cda/home/
footprint MDP0010 (DIP; 8 Leads; Row Spacing 7.62 mm; Pitch 2.54 mm)
3D model MDP0010 (DIP; 8 Leads; Row Spacing 7.62 mm; Pitch 2.54 mm)
pins: 1 BAL, 2 IN- (in), 3 IN+ (in), 4 V- (power), 5 BAL, 6 OUT (out), 7 V+ (power), 8 CMPEN

## EHA7-2502/883B
designator U?
High Slew Rate Operational Amplifier; Published: 8-Jun-2000; LatestRevisionDate: 04-Mar-2005; LatestRevisionNote: Stylized 3D Model Added.; DatasheetVersion: Sep-1992; PackageReference: MDP0010; Publisher: Altium Limited; PackageDescription: DIP; 8 Leads; Row Spacing 7.62 mm; Pitch 2.54 mm; ComponentLink1Description: Manufacturer Link; ComponentLink1URL: http://www.intersil.com/cda/home/
footprint MDP0010 (DIP; 8 Leads; Row Spacing 7.62 mm; Pitch 2.54 mm)
3D model MDP0010 (DIP; 8 Leads; Row Spacing 7.62 mm; Pitch 2.54 mm)
pins: 1 BAL, 2 IN- (in), 3 IN+ (in), 4 V- (power), 5 BAL, 6 OUT (out), 7 V+ (power), 8 CMPEN

## EHA7-2505-5
designator U?
High Slew Rate Operational Amplifier; Published: 8-Jun-2000; LatestRevisionDate: 04-Mar-2005; LatestRevisionNote: Stylized 3D Model Added.; DatasheetVersion: Sep-1992; PackageReference: MDP0010; Publisher: Altium Limited; PackageDescription: DIP; 8 Leads; Row Spacing 7.62 mm; Pitch 2.54 mm; ComponentLink1Description: Manufacturer Link; ComponentLink1URL: http://www.intersil.com/cda/home/
footprint MDP0010 (DIP; 8 Leads; Row Spacing 7.62 mm; Pitch 2.54 mm)
3D model MDP0010 (DIP; 8 Leads; Row Spacing 7.62 mm; Pitch 2.54 mm)
pins: 1 BAL, 2 IN- (in), 3 IN+ (in), 4 V- (power), 5 BAL, 6 OUT (out), 7 V+ (power), 8 CMPEN

## EHA7-2510-2
designator U?
High Slew Rate Operational Amplifier; Published: 8-Jun-2000; LatestRevisionDate: 04-Mar-2005; LatestRevisionNote: Stylized 3D Model Added.; DatasheetVersion: Sep-1992; PackageReference: MDP0010; Publisher: Altium Limited; PackageDescription: DIP; 8 Leads; Row Spacing 7.62 mm; Pitch 2.54 mm; ComponentLink1Description: Manufacturer Link; ComponentLink1URL: http://www.intersil.com/cda/home/
footprint MDP0010 (DIP; 8 Leads; Row Spacing 7.62 mm; Pitch 2.54 mm)
3D model MDP0010 (DIP; 8 Leads; Row Spacing 7.62 mm; Pitch 2.54 mm)
pins: 1 BAL, 2 IN- (in), 3 IN+ (in), 4 V- (power), 5 BAL, 6 OUT (out), 7 V+ (power), 8 CMPEN

## EHA7-2510/883B
designator U?
High Slew Rate Operational Amplifier; Published: 8-Jun-2000; LatestRevisionDate: 04-Mar-2005; LatestRevisionNote: Stylized 3D Model Added.; DatasheetVersion: Sep-1992; PackageReference: MDP0010; Publisher: Altium Limited; PackageDescription: DIP; 8 Leads; Row Spacing 7.62 mm; Pitch 2.54 mm; ComponentLink1Description: Manufacturer Link; ComponentLink1URL: http://www.intersil.com/cda/home/
footprint MDP0010 (DIP; 8 Leads; Row Spacing 7.62 mm; Pitch 2.54 mm)
3D model MDP0010 (DIP; 8 Leads; Row Spacing 7.62 mm; Pitch 2.54 mm)
pins: 1 BAL, 2 IN- (in), 3 IN+ (in), 4 V- (power), 5 BAL, 6 OUT (out), 7 V+ (power), 8 CMPEN

## EHA7-2512-2
designator U?
High Slew Rate Operational Amplifier; Published: 8-Jun-2000; LatestRevisionDate: 04-Mar-2005; LatestRevisionNote: Stylized 3D Model Added.; DatasheetVersion: Sep-1992; PackageReference: MDP0010; Publisher: Altium Limited; PackageDescription: DIP; 8 Leads; Row Spacing 7.62 mm; Pitch 2.54 mm; ComponentLink1Description: Manufacturer Link; ComponentLink1URL: http://www.intersil.com/cda/home/
footprint MDP0010 (DIP; 8 Leads; Row Spacing 7.62 mm; Pitch 2.54 mm)
3D model MDP0010 (DIP; 8 Leads; Row Spacing 7.62 mm; Pitch 2.54 mm)
pins: 1 BAL, 2 IN- (in), 3 IN+ (in), 4 V- (power), 5 BAL, 6 OUT (out), 7 V+ (power), 8 CMPEN

## EHA7-2512/883B
designator U?
High Slew Rate Operational Amplifier; Published: 8-Jun-2000; LatestRevisionDate: 04-Mar-2005; LatestRevisionNote: Stylized 3D Model Added.; DatasheetVersion: Sep-1992; PackageReference: MDP0010; Publisher: Altium Limited; PackageDescription: DIP; 8 Leads; Row Spacing 7.62 mm; Pitch 2.54 mm; ComponentLink1Description: Manufacturer Link; ComponentLink1URL: http://www.intersil.com/cda/home/
footprint MDP0010 (DIP; 8 Leads; Row Spacing 7.62 mm; Pitch 2.54 mm)
3D model MDP0010 (DIP; 8 Leads; Row Spacing 7.62 mm; Pitch 2.54 mm)
pins: 1 BAL, 2 IN- (in), 3 IN+ (in), 4 V- (power), 5 BAL, 6 OUT (out), 7 V+ (power), 8 CMPEN

## EHA7-2515-5
designator U?
High Slew Rate Operational Amplifier; Published: 8-Jun-2000; LatestRevisionDate: 04-Mar-2005; LatestRevisionNote: Stylized 3D Model Added.; DatasheetVersion: Sep-1992; PackageReference: MDP0010; Publisher: Altium Limited; PackageDescription: DIP; 8 Leads; Row Spacing 7.62 mm; Pitch 2.54 mm; ComponentLink1Description: Manufacturer Link; ComponentLink1URL: http://www.intersil.com/cda/home/
footprint MDP0010 (DIP; 8 Leads; Row Spacing 7.62 mm; Pitch 2.54 mm)
3D model MDP0010 (DIP; 8 Leads; Row Spacing 7.62 mm; Pitch 2.54 mm)
pins: 1 BAL, 2 IN- (in), 3 IN+ (in), 4 V- (power), 5 BAL, 6 OUT (out), 7 V+ (power), 8 CMPEN

## EHA7-2520-2
designator U?
High Slew Rate Operational Amplifier; Published: 8-Jun-2000; LatestRevisionDate: 04-Mar-2005; LatestRevisionNote: Stylized 3D Model Added.; DatasheetVersion: Sep-1992; PackageReference: MDP0010; Publisher: Altium Limited; PackageDescription: DIP; 8 Leads; Row Spacing 7.62 mm; Pitch 2.54 mm; ComponentLink1Description: Manufacturer Link; ComponentLink1URL: http://www.intersil.com/cda/home/
footprint MDP0010 (DIP; 8 Leads; Row Spacing 7.62 mm; Pitch 2.54 mm)
3D model MDP0010 (DIP; 8 Leads; Row Spacing 7.62 mm; Pitch 2.54 mm)
pins: 1 BAL, 2 IN- (in), 3 IN+ (in), 4 V- (power), 5 BAL, 6 OUT (out), 7 V+ (power), 8 CMPEN

## EHA7-2520/883B
designator U?
High Slew Rate Operational Amplifier; Published: 8-Jun-2000; LatestRevisionDate: 04-Mar-2005; LatestRevisionNote: Stylized 3D Model Added.; DatasheetVersion: Sep-1992; PackageReference: MDP0010; Publisher: Altium Limited; PackageDescription: DIP; 8 Leads; Row Spacing 7.62 mm; Pitch 2.54 mm; ComponentLink1Description: Manufacturer Link; ComponentLink1URL: http://www.intersil.com/cda/home/
footprint MDP0010 (DIP; 8 Leads; Row Spacing 7.62 mm; Pitch 2.54 mm)
3D model MDP0010 (DIP; 8 Leads; Row Spacing 7.62 mm; Pitch 2.54 mm)
pins: 1 BAL, 2 IN- (in), 3 IN+ (in), 4 V- (power), 5 BAL, 6 OUT (out), 7 V+ (power), 8 CMPEN

## EHA7-2522-2
designator U?
High Slew Rate Operational Amplifier; Published: 8-Jun-2000; LatestRevisionDate: 04-Mar-2005; LatestRevisionNote: Stylized 3D Model Added.; DatasheetVersion: Sep-1992; PackageReference: MDP0010; Publisher: Altium Limited; PackageDescription: DIP; 8 Leads; Row Spacing 7.62 mm; Pitch 2.54 mm; ComponentLink1Description: Manufacturer Link; ComponentLink1URL: http://www.intersil.com/cda/home/
footprint MDP0010 (DIP; 8 Leads; Row Spacing 7.62 mm; Pitch 2.54 mm)
3D model MDP0010 (DIP; 8 Leads; Row Spacing 7.62 mm; Pitch 2.54 mm)
pins: 1 BAL, 2 IN- (in), 3 IN+ (in), 4 V- (power), 5 BAL, 6 OUT (out), 7 V+ (power), 8 CMPEN

## EHA7-2522/883B
designator U?
High Slew Rate Operational Amplifier; Published: 8-Jun-2000; LatestRevisionDate: 04-Mar-2005; LatestRevisionNote: Stylized 3D Model Added.; DatasheetVersion: Sep-1992; PackageReference: MDP0010; Publisher: Altium Limited; PackageDescription: DIP; 8 Leads; Row Spacing 7.62 mm; Pitch 2.54 mm; ComponentLink1Description: Manufacturer Link; ComponentLink1URL: http://www.intersil.com/cda/home/
footprint MDP0010 (DIP; 8 Leads; Row Spacing 7.62 mm; Pitch 2.54 mm)
3D model MDP0010 (DIP; 8 Leads; Row Spacing 7.62 mm; Pitch 2.54 mm)
pins: 1 BAL, 2 IN- (in), 3 IN+ (in), 4 V- (power), 5 BAL, 6 OUT (out), 7 V+ (power), 8 CMPEN

## EHA7-2525-5
designator U?
High Slew Rate Operational Amplifier; Published: 8-Jun-2000; LatestRevisionDate: 04-Mar-2005; LatestRevisionNote: Stylized 3D Model Added.; DatasheetVersion: Sep-1992; PackageReference: MDP0010; Publisher: Altium Limited; PackageDescription: DIP; 8 Leads; Row Spacing 7.62 mm; Pitch 2.54 mm; ComponentLink1Description: Manufacturer Link; ComponentLink1URL: http://www.intersil.com/cda/home/
footprint MDP0010 (DIP; 8 Leads; Row Spacing 7.62 mm; Pitch 2.54 mm)
3D model MDP0010 (DIP; 8 Leads; Row Spacing 7.62 mm; Pitch 2.54 mm)
pins: 1 BAL, 2 IN- (in), 3 IN+ (in), 4 V- (power), 5 BAL, 6 OUT (out), 7 V+ (power), 8 CMPEN

## EHA7-2600-5
designator U?
Wideband, High Impedance Operational Amplifier; Published: 8-Jun-2000; LatestRevisionDate: 04-Mar-2005; LatestRevisionNote: Stylized 3D Model Added.; DatasheetVersion: Jun-1992; PackageReference: MDP0010; Publisher: Altium Limited; PackageDescription: DIP; 8 Leads; Row Spacing 7.62 mm; Pitch 2.54 mm; ComponentLink1Description: Manufacturer Link; ComponentLink1URL: http://www.intersil.com/cda/home/
footprint MDP0010 (DIP; 8 Leads; Row Spacing 7.62 mm; Pitch 2.54 mm)
3D model MDP0010 (DIP; 8 Leads; Row Spacing 7.62 mm; Pitch 2.54 mm)
pins: 1 BAL, 2 IN- (in), 3 IN+ (in), 4 V- (power), 5 BAL, 6 OUT (out), 7 V+ (power), 8 CMPEN

## EHA7-2602-5
designator U?
Wideband, High Impedance Operational Amplifier; Published: 8-Jun-2000; LatestRevisionDate: 04-Mar-2005; LatestRevisionNote: Stylized 3D Model Added.; DatasheetVersion: Jun-1992; PackageReference: MDP0010; Publisher: Altium Limited; PackageDescription: DIP; 8 Leads; Row Spacing 7.62 mm; Pitch 2.54 mm; ComponentLink1Description: Manufacturer Link; ComponentLink1URL: http://www.intersil.com/cda/home/
footprint MDP0010 (DIP; 8 Leads; Row Spacing 7.62 mm; Pitch 2.54 mm)
3D model MDP0010 (DIP; 8 Leads; Row Spacing 7.62 mm; Pitch 2.54 mm)
pins: 1 BAL, 2 IN- (in), 3 IN+ (in), 4 V- (power), 5 BAL, 6 OUT (out), 7 V+ (power), 8 CMPEN

## EHA7-2605-5
designator U?
Wideband, High Impedance Operational Amplifier; Published: 8-Jun-2000; LatestRevisionDate: 04-Mar-2005; LatestRevisionNote: Stylized 3D Model Added.; DatasheetVersion: Jun-1992; PackageReference: MDP0010; Publisher: Altium Limited; PackageDescription: DIP; 8 Leads; Row Spacing 7.62 mm; Pitch 2.54 mm; ComponentLink1Description: Manufacturer Link; ComponentLink1URL: http://www.intersil.com/cda/home/
footprint MDP0010 (DIP; 8 Leads; Row Spacing 7.62 mm; Pitch 2.54 mm)
3D model MDP0010 (DIP; 8 Leads; Row Spacing 7.62 mm; Pitch 2.54 mm)
pins: 1 BAL, 2 IN- (in), 3 IN+ (in), 4 V- (power), 5 BAL, 6 OUT (out), 7 V+ (power), 8 CMPEN

## EHA7-2620-5
designator U?
Wideband, High Impedance Operational Amplifier; Published: 8-Jun-2000; LatestRevisionDate: 04-Mar-2005; LatestRevisionNote: Stylized 3D Model Added.; DatasheetVersion: Jun-1992; PackageReference: MDP0010; Publisher: Altium Limited; PackageDescription: DIP; 8 Leads; Row Spacing 7.62 mm; Pitch 2.54 mm; ComponentLink1Description: Manufacturer Link; ComponentLink1URL: http://www.intersil.com/cda/home/
footprint MDP0010 (DIP; 8 Leads; Row Spacing 7.62 mm; Pitch 2.54 mm)
3D model MDP0010 (DIP; 8 Leads; Row Spacing 7.62 mm; Pitch 2.54 mm)
pins: 1 BAL, 2 IN- (in), 3 IN+ (in), 4 V- (power), 5 BAL, 6 OUT (out), 7 V+ (power), 8 CMPEN

## EHA7-2622-5
designator U?
Wideband, High Impedance Operational Amplifier; Published: 8-Jun-2000; LatestRevisionDate: 04-Mar-2005; LatestRevisionNote: Stylized 3D Model Added.; DatasheetVersion: Jun-1992; PackageReference: MDP0010; Publisher: Altium Limited; PackageDescription: DIP; 8 Leads; Row Spacing 7.62 mm; Pitch 2.54 mm; ComponentLink1Description: Manufacturer Link; ComponentLink1URL: http://www.intersil.com/cda/home/
footprint MDP0010 (DIP; 8 Leads; Row Spacing 7.62 mm; Pitch 2.54 mm)
3D model MDP0010 (DIP; 8 Leads; Row Spacing 7.62 mm; Pitch 2.54 mm)
pins: 1 BAL, 2 IN- (in), 3 IN+ (in), 4 V- (power), 5 BAL, 6 OUT (out), 7 V+ (power), 8 CMPEN

## EHA7-2625-5
designator U?
Wideband, High Impedance Operational Amplifier; Published: 8-Jun-2000; LatestRevisionDate: 04-Mar-2005; LatestRevisionNote: Stylized 3D Model Added.; DatasheetVersion: Jun-1992; PackageReference: MDP0010; Publisher: Altium Limited; PackageDescription: DIP; 8 Leads; Row Spacing 7.62 mm; Pitch 2.54 mm; ComponentLink1Description: Manufacturer Link; ComponentLink1URL: http://www.intersil.com/cda/home/
footprint MDP0010 (DIP; 8 Leads; Row Spacing 7.62 mm; Pitch 2.54 mm)
3D model MDP0010 (DIP; 8 Leads; Row Spacing 7.62 mm; Pitch 2.54 mm)
pins: 1 BAL, 2 IN- (in), 3 IN+ (in), 4 V- (power), 5 BAL, 6 OUT (out), 7 V+ (power), 8 CMPEN

## EL400CN
designator U?
200 MHz Current Feedback Amplifier; Published: 8-Jun-2000; LatestRevisionDate: 17-Jul-2002; LatestRevisionNote: Re-released for DXP Platform.; DatasheetVersion: Dec-1995; PackageReference: MDP0031-8; Publisher: Altium Limited; PackageDescription: DIP; 8 Leads; Row Spacing 7.62 mm; Pitch 2.54 mm; ComponentLink1Description: Manufacturer Link; ComponentLink1URL: http://www.intersil.com/cda/home/
footprint MDP0031-8 (DIP; 8 Leads; Row Spacing 7.62 mm; Pitch 2.54 mm)
simulation model EL400 (SUBCKT)
pins: 1 OS ADJ, 2 IN- (in), 3 IN+ (in), 4 V- (power), 5 NC, 6 OUT (out), 7 V+ (power), 8 NC
text: 5, 8

## EL400CS
designator U?
200 MHz Current Feedback Amplifier; Published: 8-Jun-2000; LatestRevisionDate: 13-Apr-2006; LatestRevisionNote: IPC-7351 Footprint Added.; DatasheetVersion: Dec-1995; PackageReference: SO-8; Publisher: Altium Limited; PackageDescription: 8-Pin Small Outline Integrated Circuit 1.27 mm Pitch; ComponentLink1Description: Manufacturer Link; ComponentLink1URL: http://www.intersil.com/cda/home/
footprint SO-8_N (SOIC, 8-Leads, Body 4.9x3.9mm, Pitch 1.27mm, IPC Medium Density)
footprint SO-8_L (SOIC, 8-Leads, Body 4.9x3.9mm, Pitch 1.27mm, IPC High Density)
footprint SO-8_M (SOIC, 8-Leads, Body 4.9x3.9mm, Pitch 1.27mm, IPC Low Density)
3D model SO-8 (8-Pin Small Outline Integrated Circuit 1.27 mm Pitch)
simulation model EL400 (SUBCKT)
pins: 1 OS ADJ, 2 IN- (in), 3 IN+ (in), 4 V- (power), 5 NC, 6 OUT (out), 7 V+ (power), 8 NC
text: 5, 8

## EL400J/883B
designator U?
200 MHz Current Feedback Amplifier; Published: 8-Jun-2000; LatestRevisionDate: 04-Mar-2005; LatestRevisionNote: Stylized 3D Model Added.; DatasheetVersion: Jul-1992; PackageReference: MDP0010; Publisher: Altium Limited; PackageDescription: DIP; 8 Leads; Row Spacing 7.62 mm; Pitch 2.54 mm; ComponentLink1Description: Manufacturer Link; ComponentLink1URL: http://www.intersil.com/cda/home/
footprint MDP0010 (DIP; 8 Leads; Row Spacing 7.62 mm; Pitch 2.54 mm)
3D model MDP0010 (DIP; 8 Leads; Row Spacing 7.62 mm; Pitch 2.54 mm)
simulation model EL400 (SUBCKT)
pins: 1 OS ADJ, 2 IN- (in), 3 IN+ (in), 4 V- (power), 5 NC, 6 OUT (out), 7 V+ (power), 8 NC
text: 5, 8

## EL2006ACG
designator U?
High Gain Fast FET Input Operational Amplifier; Note: Pins 1,7-9 are No Connection; Published: 8-Jun-2000; LatestRevisionDate: 17-Jul-2002; LatestRevisionNote: Re-released for DXP Platform.; DatasheetVersion: Nov-1993; PackageVersion: 1993; PackageReference: MDP0002; Publisher: Altium Limited; PackageDescription: Can; 12 Leads; 10.16 mm Square Array; Lead Dia. 0.48 mm (max); ComponentLink1Description: Manufacturer Link; ComponentLink1URL: http://www.intersil.com/cda/home/
footprint MDP0002 (Can; 12 Leads; 10.16 mm Square Array; Lead Dia. 0.48 mm (max))
pins: 1 NC, 2 OUT CMPEN, 3 BAL/CMPEN, 4 BAL/CMPEN, 5 IN- (in), 6 IN+ (in), 7 NC, 8 NC, 9 NC, 10 V- (power), 11 OUT (out), 12 V+ (power)
text: 1, 7 - 9

## EL2006AG
designator U?
High Gain Fast FET Input Operational Amplifier; Note: Pins 1,7-9 are No Connection; Published: 8-Jun-2000; LatestRevisionDate: 17-Jul-2002; LatestRevisionNote: Re-released for DXP Platform.; DatasheetVersion: Nov-1993; PackageVersion: 1993; PackageReference: MDP0002; Publisher: Altium Limited; PackageDescription: Can; 12 Leads; 10.16 mm Square Array; Lead Dia. 0.48 mm (max); ComponentLink1Description: Manufacturer Link; ComponentLink1URL: http://www.intersil.com/cda/home/
footprint MDP0002 (Can; 12 Leads; 10.16 mm Square Array; Lead Dia. 0.48 mm (max))
pins: 1 NC, 2 OUT CMPEN, 3 BAL/CMPEN, 4 BAL/CMPEN, 5 IN- (in), 6 IN+ (in), 7 NC, 8 NC, 9 NC, 10 V- (power), 11 OUT (out), 12 V+ (power)
text: 1, 7 - 9

## EL2006AG/883B
designator U?
High Gain Fast FET Input Operational Amplifier; Note: Pins 1,7-9 are No Connection; Published: 8-Jun-2000; LatestRevisionDate: 17-Jul-2002; LatestRevisionNote: Re-released for DXP Platform.; DatasheetVersion: Nov-1993; PackageVersion: 1993; PackageReference: MDP0002; Publisher: Altium Limited; PackageDescription: Can; 12 Leads; 10.16 mm Square Array; Lead Dia. 0.48 mm (max); ComponentLink1Description: Manufacturer Link; ComponentLink1URL: http://www.intersil.com/cda/home/
footprint MDP0002 (Can; 12 Leads; 10.16 mm Square Array; Lead Dia. 0.48 mm (max))
pins: 1 NC, 2 OUT CMPEN, 3 BAL/CMPEN, 4 BAL/CMPEN, 5 IN- (in), 6 IN+ (in), 7 NC, 8 NC, 9 NC, 10 V- (power), 11 OUT (out), 12 V+ (power)
text: 1, 7 - 9

## EL2006CG
designator U?
High Gain Fast FET Input Operational Amplifier; Note: Pins 1,7-9 are No Connection; Published: 8-Jun-2000; LatestRevisionDate: 17-Jul-2002; LatestRevisionNote: Re-released for DXP Platform.; DatasheetVersion: Nov-1993; PackageVersion: 1993; PackageReference: MDP0002; Publisher: Altium Limited; PackageDescription: Can; 12 Leads; 10.16 mm Square Array; Lead Dia. 0.48 mm (max); ComponentLink1Description: Manufacturer Link; ComponentLink1URL: http://www.intersil.com/cda/home/
footprint MDP0002 (Can; 12 Leads; 10.16 mm Square Array; Lead Dia. 0.48 mm (max))
pins: 1 NC, 2 OUT CMPEN, 3 BAL/CMPEN, 4 BAL/CMPEN, 5 IN- (in), 6 IN+ (in), 7 NC, 8 NC, 9 NC, 10 V- (power), 11 OUT (out), 12 V+ (power)
text: 1, 7 - 9

## EL2006G
designator U?
High Gain Fast FET Input Operational Amplifier; Note: Pins 1,7-9 are No Connection; Published: 8-Jun-2000; LatestRevisionDate: 17-Jul-2002; LatestRevisionNote: Re-released for DXP Platform.; DatasheetVersion: Nov-1993; PackageVersion: 1993; PackageReference: MDP0002; Publisher: Altium Limited; PackageDescription: Can; 12 Leads; 10.16 mm Square Array; Lead Dia. 0.48 mm (max); ComponentLink1Description: Manufacturer Link; ComponentLink1URL: http://www.intersil.com/cda/home/
footprint MDP0002 (Can; 12 Leads; 10.16 mm Square Array; Lead Dia. 0.48 mm (max))
pins: 1 NC, 2 OUT CMPEN, 3 BAL/CMPEN, 4 BAL/CMPEN, 5 IN- (in), 6 IN+ (in), 7 NC, 8 NC, 9 NC, 10 V- (power), 11 OUT (out), 12 V+ (power)
text: 1, 7 - 9

## EL2006G/883B
designator U?
High Gain Fast FET Input Operational Amplifier; Note: Pins 1,7-9 are No Connection; Published: 8-Jun-2000; LatestRevisionDate: 17-Jul-2002; LatestRevisionNote: Re-released for DXP Platform.; DatasheetVersion: Nov-1993; PackageVersion: 1993; PackageReference: MDP0002; Publisher: Altium Limited; PackageDescription: Can; 12 Leads; 10.16 mm Square Array; Lead Dia. 0.48 mm (max); ComponentLink1Description: Manufacturer Link; ComponentLink1URL: http://www.intersil.com/cda/home/
footprint MDP0002 (Can; 12 Leads; 10.16 mm Square Array; Lead Dia. 0.48 mm (max))
pins: 1 NC, 2 OUT CMPEN, 3 BAL/CMPEN, 4 BAL/CMPEN, 5 IN- (in), 6 IN+ (in), 7 NC, 8 NC, 9 NC, 10 V- (power), 11 OUT (out), 12 V+ (power)
text: 1, 7 - 9

## EL2006L
designator U?
High Gain Fast FET Input Operational Amplifier; Note: Pins 2-4, 6-10, 12, 13, 15, 16, 18-36, 38,39, 41-45 and 47-52 are No internal Connection (NC) pins and are not drawn.; Published: 8-Jun-2000; LatestRevisionDate: 17-Jul-2002; LatestRevisionNote: Re-released for DXP Platform.; DatasheetVersion: Jul-1992; PackageVersion: 1993; PackageReference: MDP0013; Publisher: Altium Limited; PackageDescription: Leadless Chip Carrier; 52 Terminals; Body 19.1 x 19.1 mm; ComponentLink1Description: Manufacturer Link; ComponentLink1URL: http://www.intersil.com/cda/home/
footprint MDP0013 (Leadless Chip Carrier; 52 Terminals; Body 19.1 x 19.1 mm)
pins: 1 CMPEN, 5 BAL, 11 BAL, 14 IN- (in), 17 IN+ (in), 37 V- (power), 40 OUT (out), 46 V+ (power)

## EL2020CJ
designator U?
50 MHz Current Feedback Amplifier; Published: 8-Jun-2000; LatestRevisionDate: 04-Mar-2005; LatestRevisionNote: Stylized 3D Model Added.; DatasheetVersion: Jul-1992; PackageReference: MDP0010; Publisher: Altium Limited; PackageDescription: DIP; 8 Leads; Row Spacing 7.62 mm; Pitch 2.54 mm; ComponentLink1Description: Manufacturer Link; ComponentLink1URL: http://www.intersil.com/cda/home/
footprint MDP0010 (DIP; 8 Leads; Row Spacing 7.62 mm; Pitch 2.54 mm)
3D model MDP0010 (DIP; 8 Leads; Row Spacing 7.62 mm; Pitch 2.54 mm)
simulation model EL2020 (SUBCKT)
pins: 1 BAL, 2 IN- (in), 3 IN+ (in), 4 V- (power), 5 BAL, 6 OUT (out), 7 V+ (power), 8 CMPEN